# EAGLE library part XCV200E_FG256 (library xilinx-xcv)
xcv200e_fg256 edit this description Auto generated by make-symbol-device-package-bsdl.ulp Rev. 26 Source: xcv200e_fg256.bsd
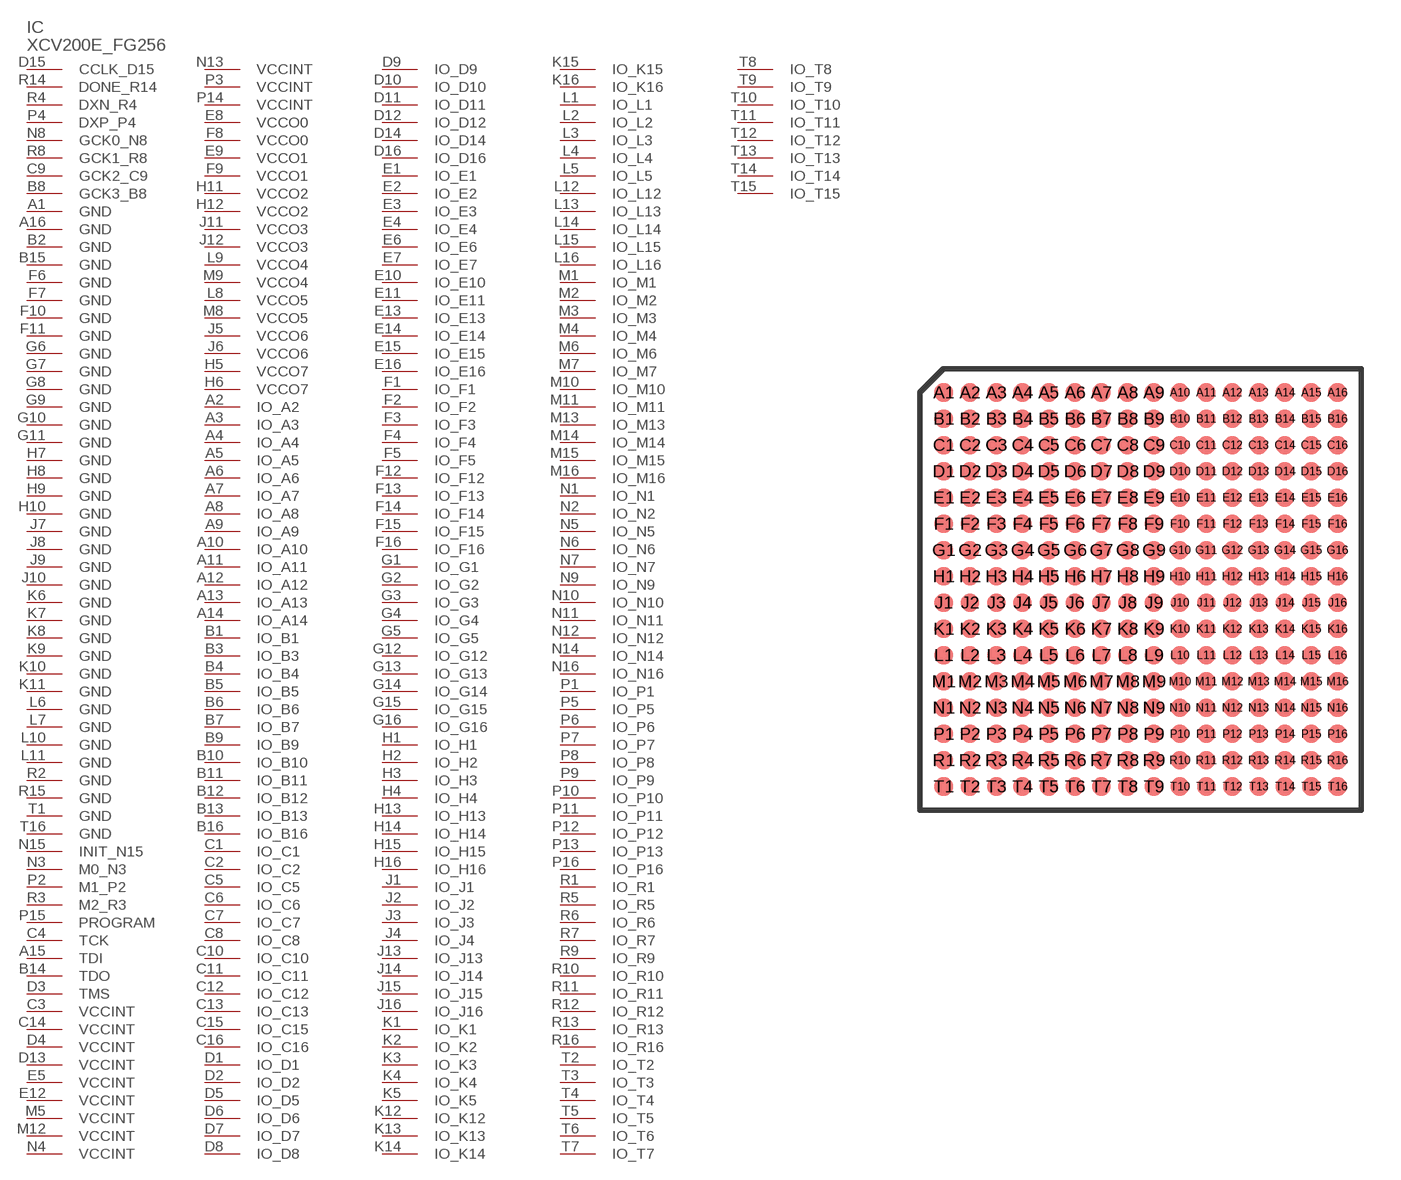
[diagram p57: symbol with the pads of FG256; footprint FG256]

Designator prefix IC

## XCV200E_FG256  [FG256]
A1  GND  pwr
A2  IO_A2
A3  IO_A3
A4  IO_A4
A5  IO_A5
A6  IO_A6
A7  IO_A7
A8  IO_A8
A9  IO_A9
A10  IO_A10
A11  IO_A11
A12  IO_A12
A13  IO_A13
A14  IO_A14
A15  TDI  in
A16  GND  pwr
B1  IO_B1
B2  GND  pwr
B3  IO_B3
B4  IO_B4
B5  IO_B5
B6  IO_B6
B7  IO_B7
B8  GCK3_B8  in
B9  IO_B9
B10  IO_B10
B11  IO_B11
B12  IO_B12
B13  IO_B13
B14  TDO  out
B15  GND  pwr
B16  IO_B16
C1  IO_C1
C2  IO_C2
C3  VCCINT  pwr
C4  TCK  in
C5  IO_C5
C6  IO_C6
C7  IO_C7
C8  IO_C8
C9  GCK2_C9  in
C10  IO_C10
C11  IO_C11
C12  IO_C12
C13  IO_C13
C14  VCCINT  pwr
C15  IO_C15
C16  IO_C16
D1  IO_D1
D2  IO_D2
D3  TMS  in
D4  VCCINT  pwr
D5  IO_D5
D6  IO_D6
D7  IO_D7
D8  IO_D8
D9  IO_D9
D10  IO_D10
D11  IO_D11
D12  IO_D12
D13  VCCINT  pwr
D14  IO_D14
D15  CCLK_D15
D16  IO_D16
E1  IO_E1
E2  IO_E2
E3  IO_E3
E4  IO_E4
E5  VCCINT  pwr
E6  IO_E6
E7  IO_E7
E8  VCCO0  pwr
E9  VCCO1  pwr
E10  IO_E10
E11  IO_E11
E12  VCCINT  pwr
E13  IO_E13
E14  IO_E14
E15  IO_E15
E16  IO_E16
F1  IO_F1
F2  IO_F2
F3  IO_F3
F4  IO_F4
F5  IO_F5
F6  GND  pwr
F7  GND  pwr
F8  VCCO0  pwr
F9  VCCO1  pwr
F10  GND  pwr
F11  GND  pwr
F12  IO_F12
F13  IO_F13
F14  IO_F14
F15  IO_F15
F16  IO_F16
G1  IO_G1
G2  IO_G2
G3  IO_G3
G4  IO_G4
G5  IO_G5
G6  GND  pwr
G7  GND  pwr
G8  GND  pwr
G9  GND  pwr
G10  GND  pwr
G11  GND  pwr
G12  IO_G12
G13  IO_G13
G14  IO_G14
G15  IO_G15
G16  IO_G16
H1  IO_H1
H2  IO_H2
H3  IO_H3
H4  IO_H4
H5  VCCO7  pwr
H6  VCCO7  pwr
H7  GND  pwr
H8  GND  pwr
H9  GND  pwr
H10  GND  pwr
H11  VCCO2  pwr
H12  VCCO2  pwr
H13  IO_H13
H14  IO_H14
H15  IO_H15
H16  IO_H16
J1  IO_J1
J2  IO_J2
J3  IO_J3
J4  IO_J4
J5  VCCO6  pwr
J6  VCCO6  pwr
J7  GND  pwr
J8  GND  pwr
J9  GND  pwr
J10  GND  pwr
J11  VCCO3  pwr
J12  VCCO3  pwr
J13  IO_J13
J14  IO_J14
J15  IO_J15
J16  IO_J16
K1  IO_K1
K2  IO_K2
K3  IO_K3
K4  IO_K4
K5  IO_K5
K6  GND  pwr
K7  GND  pwr
K8  GND  pwr
K9  GND  pwr
K10  GND  pwr
K11  GND  pwr
K12  IO_K12
K13  IO_K13
K14  IO_K14
K15  IO_K15
K16  IO_K16
L1  IO_L1
L2  IO_L2
L3  IO_L3
L4  IO_L4
L5  IO_L5
L6  GND  pwr
L7  GND  pwr
L8  VCCO5  pwr
L9  VCCO4  pwr
L10  GND  pwr
L11  GND  pwr
L12  IO_L12
L13  IO_L13
L14  IO_L14
L15  IO_L15
L16  IO_L16
M1  IO_M1
M2  IO_M2
M3  IO_M3
M4  IO_M4
M5  VCCINT  pwr
M6  IO_M6
M7  IO_M7
M8  VCCO5  pwr
M9  VCCO4  pwr
M10  IO_M10
M11  IO_M11
M12  VCCINT  pwr
M13  IO_M13
M14  IO_M14
M15  IO_M15
M16  IO_M16
N1  IO_N1
N2  IO_N2
N3  M0_N3  in
N4  VCCINT  pwr
N5  IO_N5
N6  IO_N6
N7  IO_N7
N8  GCK0_N8  in
N9  IO_N9
N10  IO_N10
N11  IO_N11
N12  IO_N12
N13  VCCINT  pwr
N14  IO_N14
N15  INIT_N15
N16  IO_N16
P1  IO_P1
P2  M1_P2  in
P3  VCCINT  pwr
P4  DXP_P4  pas
P5  IO_P5
P6  IO_P6
P7  IO_P7
P8  IO_P8
P9  IO_P9
P10  IO_P10
P11  IO_P11
P12  IO_P12
P13  IO_P13
P14  VCCINT  pwr
P15  PROGRAM  in
P16  IO_P16
R1  IO_R1
R2  GND  pwr
R3  M2_R3  in
R4  DXN_R4  pas
R5  IO_R5
R6  IO_R6
R7  IO_R7
R8  GCK1_R8  in
R9  IO_R9
R10  IO_R10
R11  IO_R11
R12  IO_R12
R13  IO_R13
R14  DONE_R14
R15  GND  pwr
R16  IO_R16
T1  GND  pwr
T2  IO_T2
T3  IO_T3
T4  IO_T4
T5  IO_T5
T6  IO_T6
T7  IO_T7
T8  IO_T8
T9  IO_T9
T10  IO_T10
T11  IO_T11
T12  IO_T12
T13  IO_T13
T14  IO_T14
T15  IO_T15
T16  GND  pwr

## Footprint FG256 (pad centres in mm)
Fine Pitch BGA (FG256) Auto generated by make-symbol-device-package-bsdl.ulp Rev. 26 Source: xcv100_fg256.bsd; fg256.pdf
smd 0.7 x 0.7: A1 -7.5,7.5; A2 -6.5,7.5; A3 -5.5,7.5; A4 -4.5,7.5; A5 -3.5,7.5; A6 -2.5,7.5; A7 -1.5,7.5; A8 -0.5,7.5; A9 0.5,7.5; A10 1.5,7.5; A11 2.5,7.5; A12 3.5,7.5; A13 4.5,7.5; A14 5.5,7.5; A15 6.5,7.5; A16 7.5,7.5; B1 -7.5,6.5; B2 -6.5,6.5; B3 -5.5,6.5; B4 -4.5,6.5; B5 -3.5,6.5; B6 -2.5,6.5; B7 -1.5,6.5; B8 -0.5,6.5; B9 0.5,6.5; B10 1.5,6.5; B11 2.5,6.5; B12 3.5,6.5; B13 4.5,6.5; B14 5.5,6.5; B15 6.5,6.5; B16 7.5,6.5; C1 -7.5,5.5; C2 -6.5,5.5; C3 -5.5,5.5; C4 -4.5,5.5; C5 -3.5,5.5; C6 -2.5,5.5; C7 -1.5,5.5; C8 -0.5,5.5; C9 0.5,5.5; C10 1.5,5.5; C11 2.5,5.5; C12 3.5,5.5; C13 4.5,5.5; C14 5.5,5.5; C15 6.5,5.5; C16 7.5,5.5; D1 -7.5,4.5; D2 -6.5,4.5; D3 -5.5,4.5; D4 -4.5,4.5; D5 -3.5,4.5; D6 -2.5,4.5; D7 -1.5,4.5; D8 -0.5,4.5; D9 0.5,4.5; D10 1.5,4.5; D11 2.5,4.5; D12 3.5,4.5; D13 4.5,4.5; D14 5.5,4.5; D15 6.5,4.5; D16 7.5,4.5; E1 -7.5,3.5; E2 -6.5,3.5; E3 -5.5,3.5; E4 -4.5,3.5; E5 -3.5,3.5; E6 -2.5,3.5; E7 -1.5,3.5; E8 -0.5,3.5; E9 0.5,3.5; E10 1.5,3.5; E11 2.5,3.5; E12 3.5,3.5; E13 4.5,3.5; E14 5.5,3.5; E15 6.5,3.5; E16 7.5,3.5; F1 -7.5,2.5; F2 -6.5,2.5; F3 -5.5,2.5; F4 -4.5,2.5; F5 -3.5,2.5; F6 -2.5,2.5; F7 -1.5,2.5; F8 -0.5,2.5; F9 0.5,2.5; F10 1.5,2.5; F11 2.5,2.5; F12 3.5,2.5; F13 4.5,2.5; F14 5.5,2.5; F15 6.5,2.5; F16 7.5,2.5; G1 -7.5,1.5; G2 -6.5,1.5; G3 -5.5,1.5; G4 -4.5,1.5; G5 -3.5,1.5; G6 -2.5,1.5; G7 -1.5,1.5; G8 -0.5,1.5; G9 0.5,1.5; G10 1.5,1.5; G11 2.5,1.5; G12 3.5,1.5; G13 4.5,1.5; G14 5.5,1.5; G15 6.5,1.5; G16 7.5,1.5; H1 -7.5,0.5; H2 -6.5,0.5; H3 -5.5,0.5; H4 -4.5,0.5; H5 -3.5,0.5; H6 -2.5,0.5; H7 -1.5,0.5; H8 -0.5,0.5; H9 0.5,0.5; H10 1.5,0.5; H11 2.5,0.5; H12 3.5,0.5; H13 4.5,0.5; H14 5.5,0.5; H15 6.5,0.5; H16 7.5,0.5; J1 -7.5,-0.5; J2 -6.5,-0.5; J3 -5.5,-0.5; J4 -4.5,-0.5; J5 -3.5,-0.5; J6 -2.5,-0.5; J7 -1.5,-0.5; J8 -0.5,-0.5; J9 0.5,-0.5; J10 1.5,-0.5; J11 2.5,-0.5; J12 3.5,-0.5; J13 4.5,-0.5; J14 5.5,-0.5; J15 6.5,-0.5; J16 7.5,-0.5; K1 -7.5,-1.5; K2 -6.5,-1.5; K3 -5.5,-1.5; K4 -4.5,-1.5; K5 -3.5,-1.5; K6 -2.5,-1.5; K7 -1.5,-1.5; K8 -0.5,-1.5; K9 0.5,-1.5; K10 1.5,-1.5; K11 2.5,-1.5; K12 3.5,-1.5; K13 4.5,-1.5; K14 5.5,-1.5; K15 6.5,-1.5; K16 7.5,-1.5; L1 -7.5,-2.5; L2 -6.5,-2.5; L3 -5.5,-2.5; L4 -4.5,-2.5; L5 -3.5,-2.5; L6 -2.5,-2.5; L7 -1.5,-2.5; L8 -0.5,-2.5; L9 0.5,-2.5; L10 1.5,-2.5; L11 2.5,-2.5; L12 3.5,-2.5; L13 4.5,-2.5; L14 5.5,-2.5; L15 6.5,-2.5; L16 7.5,-2.5; M1 -7.5,-3.5; M2 -6.5,-3.5; M3 -5.5,-3.5; M4 -4.5,-3.5; M5 -3.5,-3.5; M6 -2.5,-3.5; M7 -1.5,-3.5; M8 -0.5,-3.5; M9 0.5,-3.5; M10 1.5,-3.5; M11 2.5,-3.5; M12 3.5,-3.5; M13 4.5,-3.5; M14 5.5,-3.5; M15 6.5,-3.5; M16 7.5,-3.5; N1 -7.5,-4.5; N2 -6.5,-4.5; N3 -5.5,-4.5; N4 -4.5,-4.5; N5 -3.5,-4.5; N6 -2.5,-4.5; N7 -1.5,-4.5; N8 -0.5,-4.5; N9 0.5,-4.5; N10 1.5,-4.5; N11 2.5,-4.5; N12 3.5,-4.5; N13 4.5,-4.5; N14 5.5,-4.5; N15 6.5,-4.5; N16 7.5,-4.5; P1 -7.5,-5.5; P2 -6.5,-5.5; P3 -5.5,-5.5; P4 -4.5,-5.5; P5 -3.5,-5.5; P6 -2.5,-5.5; P7 -1.5,-5.5; P8 -0.5,-5.5; P9 0.5,-5.5; P10 1.5,-5.5; P11 2.5,-5.5; P12 3.5,-5.5; P13 4.5,-5.5; P14 5.5,-5.5; P15 6.5,-5.5; P16 7.5,-5.5; R1 -7.5,-6.5; R2 -6.5,-6.5; R3 -5.5,-6.5; R4 -4.5,-6.5; R5 -3.5,-6.5; R6 -2.5,-6.5; R7 -1.5,-6.5; R8 -0.5,-6.5; R9 0.5,-6.5; R10 1.5,-6.5; R11 2.5,-6.5; R12 3.5,-6.5; R13 4.5,-6.5; R14 5.5,-6.5; R15 6.5,-6.5; R16 7.5,-6.5; T1 -7.5,-7.5; T2 -6.5,-7.5; T3 -5.5,-7.5; T4 -4.5,-7.5; T5 -3.5,-7.5; T6 -2.5,-7.5; T7 -1.5,-7.5; T8 -0.5,-7.5; T9 0.5,-7.5; T10 1.5,-7.5; T11 2.5,-7.5; T12 3.5,-7.5; T13 4.5,-7.5; T14 5.5,-7.5; T15 6.5,-7.5; T16 7.5,-7.5